# Altium schematic symbol library DBM.SchLib: 2 symbols
Pins are listed as number, name and electrical type; pins without a type are passive.

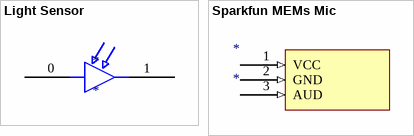
[diagram p0: symbols Light Sensor to Sparkfun MEMs Mic]

## Light Sensor
designator *
footprint MODULE_ABX00028
footprint PCBComponent_1
footprint Light Sensor
pins: 0, 1

## Sparkfun MEMs Mic
designator *
pins: 1 VCC (in), 2 GND (in), 3 AUD (in)